# Altium schematic symbol library M50-3000745.Schlib: 1 symbol
Pins are listed as number, name and electrical type; pins without a type are passive.

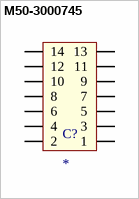
[diagram p0: symbol M50-3000745]

## M50-3000745
designator C?
CONN RCPT 14POS DUAL .05" TH
pins: 1, 2, 3, 4, 5, 6, 7, 8, 9, 10, 11, 12, 13, 14